# Altium footprint library Connector_Wire.PcbLib: 326 footprints (part 7 of 21)
Each footprint in its own frame and in the unit in brackets; x right, y up, seen from the top. Pads: shape width x height; smd on the part's side, far side on the other; paste and mask are expansions set on the pad; w line width, h text height; cw(c..) or ccw(c..) is an arc to the next point about the centre after c.
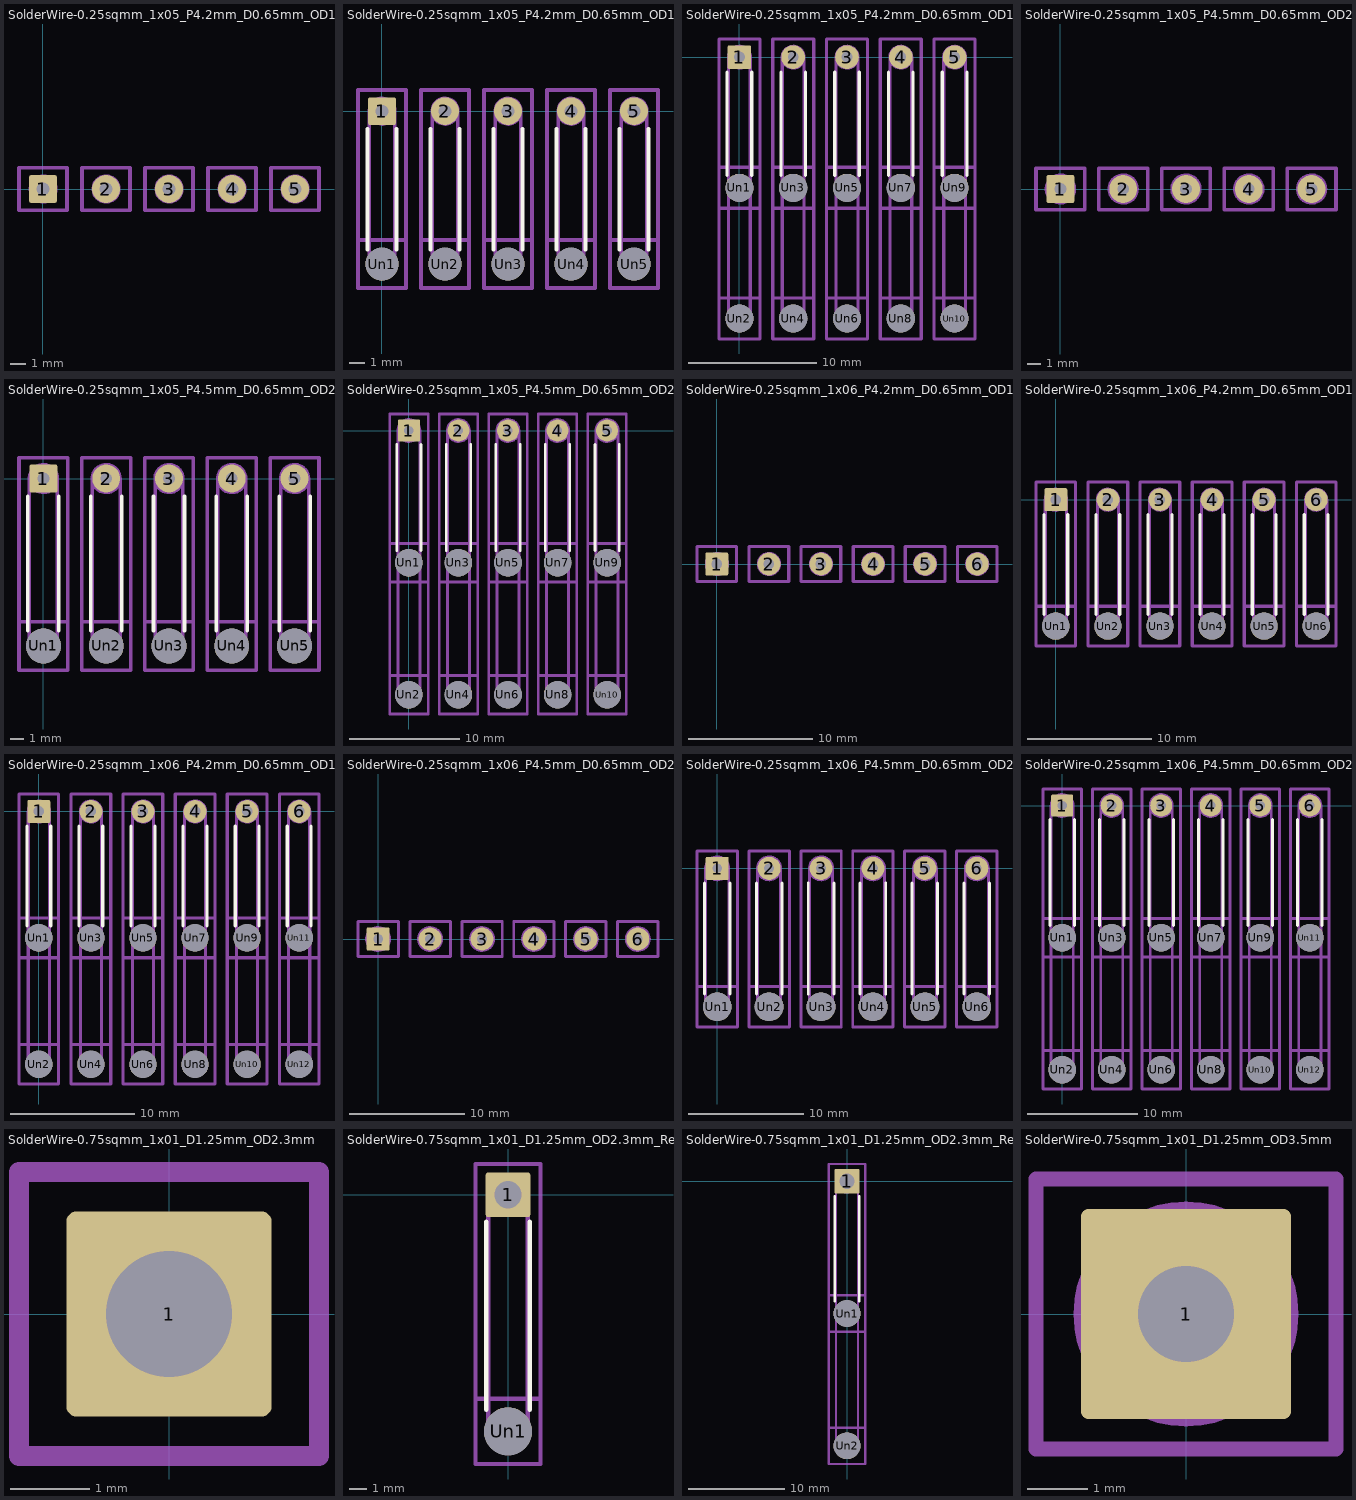
[diagram p6: the footprints below, top view; thin cyan lines are the x and y axes]

## SolderWire-0.25sqmm_1x05_P4.2mm_D0.65mm_OD1.7mm [mm]
pads (5):
  rrect14% 1.85x1.85 hole 0.85: 1(0,0)
  round 1.85 hole 0.85: 2(4.2,0) 3(8.4,0) 4(12.6,0) 5(16.8,0)
Top Assembly:
  circle w0.254: c16.8,0 r0.85
  circle w0.254: c12.6,0 r0.85
  circle w0.254: c8.4,0 r0.85
  circle w0.254: c4.2,0 r0.85
  circle w0.254: c0,0 r0.85
  text "'.Designator'" at 8.75,-1.697 h0.42
Top Courtyard:
  lines w0.254: -1.6,-1.42 1.6,-1.42 1.6,1.42 -1.6,1.42 -1.6,-1.42 ; 2.6,-1.42 5.8,-1.42 5.8,1.42 2.6,1.42 2.6,-1.42 ; 6.8,-1.42 10,-1.42 10,1.42 6.8,1.42 6.8,-1.42 ; 11,-1.42 14.2,-1.42 14.2,1.42 11,1.42 11,-1.42 ; 15.2,-1.42 18.4,-1.42 18.4,1.42 15.2,1.42 15.2,-1.42
Top Designator:
  text ".Designator" at 0.782,-0.568 h1.52

## SolderWire-0.25sqmm_1x05_P4.2mm_D0.65mm_OD1.7mm_Relief [mm]
pads (10):
  rrect14% 1.85x1.85 hole 0.85: 1(0,0)
  round 1.85 hole 0.85: 2(4.2,0) 3(8.4,0) 4(12.6,0) 5(16.8,0)
  round 2.2 hole 2.2: Un1(0,-10.2) Un2(4.2,-10.2) Un3(8.4,-10.2) Un4(12.6,-10.2) Un5(16.8,-10.2)
F.SilkS:
  lines w0.254: -0.96,-9.24 -0.96,-1.185 ; 0.96,-9.24 0.96,-1.185 ; 3.24,-9.24 3.24,-1.185 ; 5.16,-9.24 5.16,-1.185 ; 7.44,-9.24 7.44,-1.185 ; 9.36,-9.24 9.36,-1.185 ; 11.64,-9.24 11.64,-1.185 ; 13.56,-9.24 13.56,-1.185 ; 15.84,-9.24 15.84,-1.185 ; 17.76,-9.24 17.76,-1.185
Top Assembly:
  circle w0.254: c16.8,-10.2 r0.85
  circle w0.254: c16.8,0 r0.85
  circle w0.254: c12.6,-10.2 r0.85
  circle w0.254: c12.6,0 r0.85
  circle w0.254: c8.4,-10.2 r0.85
  circle w0.254: c8.4,0 r0.85
  circle w0.254: c4.2,-10.2 r0.85
  circle w0.254: c4.2,0 r0.85
  circle w0.254: c0,-10.2 r0.85
  circle w0.254: c0,0 r0.85
  lines w0.254: -0.85,-10.2 -0.85,0 ; 0.85,-10.2 0.85,0 ; 3.35,-10.2 3.35,0 ; 5.05,-10.2 5.05,0 ; 7.55,-10.2 7.55,0 ; 9.25,-10.2 9.25,0 ; 11.75,-10.2 11.75,0 ; 13.45,-10.2 13.45,0 ; 15.95,-10.2 15.95,0 ; 17.65,-10.2 17.65,0
  text "'.Designator'" at 9.24,-9.147 h1
Top Courtyard:
  lines w0.254: -1.6,-11.8 1.6,-11.8 1.6,1.42 -1.6,1.42 -1.6,-11.8 ; 2.6,-11.8 5.8,-11.8 5.8,1.42 2.6,1.42 2.6,-11.8 ; 6.8,-11.8 10,-11.8 10,1.42 6.8,1.42 6.8,-11.8 ; 11,-11.8 14.2,-11.8 14.2,1.42 11,1.42 11,-11.8 ; 15.2,-11.8 18.4,-11.8 18.4,1.42 15.2,1.42 15.2,-11.8
Bottom Courtyard:
  lines w0.254: -1.6,-11.8 1.6,-11.8 1.6,-8.6 -1.6,-8.6 -1.6,-11.8 ; 2.6,-11.8 5.8,-11.8 5.8,-8.6 2.6,-8.6 2.6,-11.8 ; 6.8,-11.8 10,-11.8 10,-8.6 6.8,-8.6 6.8,-11.8 ; 11,-11.8 14.2,-11.8 14.2,-8.6 11,-8.6 11,-11.8 ; 15.2,-11.8 18.4,-11.8 18.4,-8.6 15.2,-8.6 15.2,-11.8
Top Designator:
  text ".Designator" at 0.782,-5.698 h1.52

## SolderWire-0.25sqmm_1x05_P4.2mm_D0.65mm_OD1.7mm_Relief2x [mm]
pads (15):
  rrect14% 1.85x1.85 hole 0.85: 1(0,0)
  round 1.85 hole 0.85: 2(4.2,0) 3(8.4,0) 4(12.6,0) 5(16.8,0)
  round 2.2 hole 2.2: Un1(0,-10.2) Un2(0,-20.4) Un3(4.2,-10.2) Un4(4.2,-20.4) Un5(8.4,-10.2) Un6(8.4,-20.4) Un7(12.6,-10.2) Un8(12.6,-20.4) Un9(16.8,-10.2) Un10(16.8,-20.4)
F.SilkS:
  lines w0.254: -0.96,-9.24 -0.96,-1.185 ; 0.96,-9.24 0.96,-1.185 ; 3.24,-9.24 3.24,-1.185 ; 5.16,-9.24 5.16,-1.185 ; 7.44,-9.24 7.44,-1.185 ; 9.36,-9.24 9.36,-1.185 ; 11.64,-9.24 11.64,-1.185 ; 13.56,-9.24 13.56,-1.185 ; 15.84,-9.24 15.84,-1.185 ; 17.76,-9.24 17.76,-1.185
B.SilkS:
  lines w0.254: -0.96,-19.44 -0.96,-11.16 ; 0.96,-19.44 0.96,-11.16 ; 3.24,-19.44 3.24,-11.16 ; 5.16,-19.44 5.16,-11.16 ; 7.44,-19.44 7.44,-11.16 ; 9.36,-19.44 9.36,-11.16 ; 11.64,-19.44 11.64,-11.16 ; 13.56,-19.44 13.56,-11.16 ; 15.84,-19.44 15.84,-11.16 ; 17.76,-19.44 17.76,-11.16
Top Assembly:
  circle w0.254: c16.8,-20.4 r0.85
  circle w0.254: c16.8,-10.2 r0.85
  circle w0.254: c16.8,0 r0.85
  circle w0.254: c12.6,-20.4 r0.85
  circle w0.254: c12.6,-10.2 r0.85
  circle w0.254: c12.6,0 r0.85
  circle w0.254: c8.4,-20.4 r0.85
  circle w0.254: c8.4,-10.2 r0.85
  circle w0.254: c8.4,0 r0.85
  circle w0.254: c4.2,-20.4 r0.85
  circle w0.254: c4.2,-10.2 r0.85
  circle w0.254: c4.2,0 r0.85
  circle w0.254: c0,-20.4 r0.85
  circle w0.254: c0,-10.2 r0.85
  circle w0.254: c0,0 r0.85
  lines w0.254: -0.85,-10.2 -0.85,0 ; 0.85,-10.2 0.85,0 ; 3.35,-10.2 3.35,0 ; 5.05,-10.2 5.05,0 ; 7.55,-10.2 7.55,0 ; 9.25,-10.2 9.25,0 ; 11.75,-10.2 11.75,0 ; 13.45,-10.2 13.45,0 ; 15.95,-10.2 15.95,0 ; 17.65,-10.2 17.65,0
  text "'.Designator'" at 9.24,-9.147 h1
Bottom Assembly:
  circle w0.254: c16.8,-20.4 r0.85
  circle w0.254: c16.8,-10.2 r0.85
  circle w0.254: c12.6,-20.4 r0.85
  circle w0.254: c12.6,-10.2 r0.85
  circle w0.254: c8.4,-20.4 r0.85
  circle w0.254: c8.4,-10.2 r0.85
  circle w0.254: c4.2,-20.4 r0.85
  circle w0.254: c4.2,-10.2 r0.85
  circle w0.254: c0,-20.4 r0.85
  circle w0.254: c0,-10.2 r0.85
  lines w0.254: -0.85,-20.4 -0.85,-10.2 ; 0.85,-20.4 0.85,-10.2 ; 3.35,-20.4 3.35,-10.2 ; 5.05,-20.4 5.05,-10.2 ; 7.55,-20.4 7.55,-10.2 ; 9.25,-20.4 9.25,-10.2 ; 11.75,-20.4 11.75,-10.2 ; 13.45,-20.4 13.45,-10.2 ; 15.95,-20.4 15.95,-10.2 ; 17.65,-20.4 17.65,-10.2
Top Courtyard:
  lines w0.254: -1.6,-22 1.6,-22 1.6,-18.8 -1.6,-18.8 -1.6,-22 ; -1.6,-11.8 1.6,-11.8 1.6,1.42 -1.6,1.42 -1.6,-11.8 ; 2.6,-22 5.8,-22 5.8,-18.8 2.6,-18.8 2.6,-22 ; 2.6,-11.8 5.8,-11.8 5.8,1.42 2.6,1.42 2.6,-11.8 ; 6.8,-22 10,-22 10,-18.8 6.8,-18.8 6.8,-22 ; 6.8,-11.8 10,-11.8 10,1.42 6.8,1.42 6.8,-11.8 ; 11,-22 14.2,-22 14.2,-18.8 11,-18.8 11,-22 ; 11,-11.8 14.2,-11.8 14.2,1.42 11,1.42 11,-11.8 ; 15.2,-22 18.4,-22 18.4,-18.8 15.2,-18.8 15.2,-22 ; 15.2,-11.8 18.4,-11.8 18.4,1.42 15.2,1.42 15.2,-11.8
Bottom Courtyard:
  lines w0.254: -1.6,-22 1.6,-22 1.6,-8.6 -1.6,-8.6 -1.6,-22 ; 2.6,-22 5.8,-22 5.8,-8.6 2.6,-8.6 2.6,-22 ; 6.8,-22 10,-22 10,-8.6 6.8,-8.6 6.8,-22 ; 11,-22 14.2,-22 14.2,-8.6 11,-8.6 11,-22 ; 15.2,-22 18.4,-22 18.4,-8.6 15.2,-8.6 15.2,-22
Top Designator:
  text ".Designator" at 0.782,-10.798 h1.52

## SolderWire-0.25sqmm_1x05_P4.5mm_D0.65mm_OD2mm [mm]
pads (5):
  rrect12% 2x2 hole 0.85: 1(0,0)
  round 2 hole 0.85: 2(4.5,0) 3(9,0) 4(13.5,0) 5(18,0)
Top Assembly:
  circle w0.254: c18,0 r1
  circle w0.254: c13.5,0 r1
  circle w0.254: c9,0 r1
  circle w0.254: c4.5,0 r1
  circle w0.254: c0,0 r1
  text "'.Designator'" at 6.972,-0.425 h0.5
Top Courtyard:
  lines w0.254: -1.75,-1.5 1.75,-1.5 1.75,1.5 -1.75,1.5 -1.75,-1.5 ; 2.75,-1.5 6.25,-1.5 6.25,1.5 2.75,1.5 2.75,-1.5 ; 7.25,-1.5 10.75,-1.5 10.75,1.5 7.25,1.5 7.25,-1.5 ; 11.75,-1.5 15.25,-1.5 15.25,1.5 11.75,1.5 11.75,-1.5 ; 16.25,-1.5 19.75,-1.5 19.75,1.5 16.25,1.5 16.25,-1.5
Top Designator:
  text ".Designator" at 1.382,-0.508 h1.52

## SolderWire-0.25sqmm_1x05_P4.5mm_D0.65mm_OD2mm_Relief [mm]
pads (10):
  rrect12% 2x2 hole 0.85: 1(0,0)
  round 2 hole 0.85: 2(4.5,0) 3(9,0) 4(13.5,0) 5(18,0)
  round 2.5 hole 2.5: Un1(0,-12) Un2(4.5,-12) Un3(9,-12) Un4(13.5,-12) Un5(18,-12)
F.SilkS:
  lines w0.254: -1.11,-10.89 -1.11,-1.26 ; 1.11,-10.89 1.11,-1.26 ; 3.39,-10.89 3.39,-1.26 ; 5.61,-10.89 5.61,-1.26 ; 7.89,-10.89 7.89,-1.26 ; 10.11,-10.89 10.11,-1.26 ; 12.39,-10.89 12.39,-1.26 ; 14.61,-10.89 14.61,-1.26 ; 16.89,-10.89 16.89,-1.26 ; 19.11,-10.89 19.11,-1.26
Top Assembly:
  circle w0.254: c18,-12 r1
  circle w0.254: c18,0 r1
  circle w0.254: c13.5,-12 r1
  circle w0.254: c13.5,0 r1
  circle w0.254: c9,-12 r1
  circle w0.254: c9,0 r1
  circle w0.254: c4.5,-12 r1
  circle w0.254: c4.5,0 r1
  circle w0.254: c0,-12 r1
  circle w0.254: c0,0 r1
  lines w0.254: -1,-12 -1,0 ; 1,-12 1,0 ; 3.5,-12 3.5,0 ; 5.5,-12 5.5,0 ; 8,-12 8,0 ; 10,-12 10,0 ; 12.5,-12 12.5,0 ; 14.5,-12 14.5,0 ; 17,-12 17,0 ; 19,-12 19,0
  text "'.Designator'" at 9.84,-10.047 h1
Top Courtyard:
  lines w0.254: -1.75,-13.75 1.75,-13.75 1.75,1.5 -1.75,1.5 -1.75,-13.75 ; 2.75,-13.75 6.25,-13.75 6.25,1.5 2.75,1.5 2.75,-13.75 ; 7.25,-13.75 10.75,-13.75 10.75,1.5 7.25,1.5 7.25,-13.75 ; 11.75,-13.75 15.25,-13.75 15.25,1.5 11.75,1.5 11.75,-13.75 ; 16.25,-13.75 19.75,-13.75 19.75,1.5 16.25,1.5 16.25,-13.75
Bottom Courtyard:
  lines w0.254: -1.75,-13.75 1.75,-13.75 1.75,-10.25 -1.75,-10.25 -1.75,-13.75 ; 2.75,-13.75 6.25,-13.75 6.25,-10.25 2.75,-10.25 2.75,-13.75 ; 7.25,-13.75 10.75,-13.75 10.75,-10.25 7.25,-10.25 7.25,-13.75 ; 11.75,-13.75 15.25,-13.75 15.25,-10.25 11.75,-10.25 11.75,-13.75 ; 16.25,-13.75 19.75,-13.75 19.75,-10.25 16.25,-10.25 16.25,-13.75
Top Designator:
  text ".Designator" at 1.382,-6.633 h1.52

## SolderWire-0.25sqmm_1x05_P4.5mm_D0.65mm_OD2mm_Relief2x [mm]
pads (15):
  rrect12% 2x2 hole 0.85: 1(0,0)
  round 2 hole 0.85: 2(4.5,0) 3(9,0) 4(13.5,0) 5(18,0)
  round 2.5 hole 2.5: Un1(0,-12) Un2(0,-24) Un3(4.5,-12) Un4(4.5,-24) Un5(9,-12) Un6(9,-24) Un7(13.5,-12) Un8(13.5,-24) Un9(18,-12) Un10(18,-24)
F.SilkS:
  lines w0.254: -1.11,-10.89 -1.11,-1.26 ; 1.11,-10.89 1.11,-1.26 ; 3.39,-10.89 3.39,-1.26 ; 5.61,-10.89 5.61,-1.26 ; 7.89,-10.89 7.89,-1.26 ; 10.11,-10.89 10.11,-1.26 ; 12.39,-10.89 12.39,-1.26 ; 14.61,-10.89 14.61,-1.26 ; 16.89,-10.89 16.89,-1.26 ; 19.11,-10.89 19.11,-1.26
B.SilkS:
  lines w0.254: -1.11,-22.89 -1.11,-13.11 ; 1.11,-22.89 1.11,-13.11 ; 3.39,-22.89 3.39,-13.11 ; 5.61,-22.89 5.61,-13.11 ; 7.89,-22.89 7.89,-13.11 ; 10.11,-22.89 10.11,-13.11 ; 12.39,-22.89 12.39,-13.11 ; 14.61,-22.89 14.61,-13.11 ; 16.89,-22.89 16.89,-13.11 ; 19.11,-22.89 19.11,-13.11
Top Assembly:
  circle w0.254: c18,-24 r1
  circle w0.254: c18,-12 r1
  circle w0.254: c18,0 r1
  circle w0.254: c13.5,-24 r1
  circle w0.254: c13.5,-12 r1
  circle w0.254: c13.5,0 r1
  circle w0.254: c9,-24 r1
  circle w0.254: c9,-12 r1
  circle w0.254: c9,0 r1
  circle w0.254: c4.5,-24 r1
  circle w0.254: c4.5,-12 r1
  circle w0.254: c4.5,0 r1
  circle w0.254: c0,-24 r1
  circle w0.254: c0,-12 r1
  circle w0.254: c0,0 r1
  lines w0.254: -1,-12 -1,0 ; 1,-12 1,0 ; 3.5,-12 3.5,0 ; 5.5,-12 5.5,0 ; 8,-12 8,0 ; 10,-12 10,0 ; 12.5,-12 12.5,0 ; 14.5,-12 14.5,0 ; 17,-12 17,0 ; 19,-12 19,0
  text "'.Designator'" at 9.84,-10.047 h1
Bottom Assembly:
  circle w0.254: c18,-24 r1
  circle w0.254: c18,-12 r1
  circle w0.254: c13.5,-24 r1
  circle w0.254: c13.5,-12 r1
  circle w0.254: c9,-24 r1
  circle w0.254: c9,-12 r1
  circle w0.254: c4.5,-24 r1
  circle w0.254: c4.5,-12 r1
  circle w0.254: c0,-24 r1
  circle w0.254: c0,-12 r1
  lines w0.254: -1,-24 -1,-12 ; 1,-24 1,-12 ; 3.5,-24 3.5,-12 ; 5.5,-24 5.5,-12 ; 8,-24 8,-12 ; 10,-24 10,-12 ; 12.5,-24 12.5,-12 ; 14.5,-24 14.5,-12 ; 17,-24 17,-12 ; 19,-24 19,-12
Top Courtyard:
  lines w0.254: -1.75,-25.75 1.75,-25.75 1.75,-22.25 -1.75,-22.25 -1.75,-25.75 ; -1.75,-13.75 1.75,-13.75 1.75,1.5 -1.75,1.5 -1.75,-13.75 ; 2.75,-25.75 6.25,-25.75 6.25,-22.25 2.75,-22.25 2.75,-25.75 ; 2.75,-13.75 6.25,-13.75 6.25,1.5 2.75,1.5 2.75,-13.75 ; 7.25,-25.75 10.75,-25.75 10.75,-22.25 7.25,-22.25 7.25,-25.75 ; 7.25,-13.75 10.75,-13.75 10.75,1.5 7.25,1.5 7.25,-13.75 ; 11.75,-25.75 15.25,-25.75 15.25,-22.25 11.75,-22.25 11.75,-25.75 ; 11.75,-13.75 15.25,-13.75 15.25,1.5 11.75,1.5 11.75,-13.75 ; 16.25,-25.75 19.75,-25.75 19.75,-22.25 16.25,-22.25 16.25,-25.75 ; 16.25,-13.75 19.75,-13.75 19.75,1.5 16.25,1.5 16.25,-13.75
Bottom Courtyard:
  lines w0.254: -1.75,-25.75 1.75,-25.75 1.75,-10.25 -1.75,-10.25 -1.75,-25.75 ; 2.75,-25.75 6.25,-25.75 6.25,-10.25 2.75,-10.25 2.75,-25.75 ; 7.25,-25.75 10.75,-25.75 10.75,-10.25 7.25,-10.25 7.25,-25.75 ; 11.75,-25.75 15.25,-25.75 15.25,-10.25 11.75,-10.25 11.75,-25.75 ; 16.25,-25.75 19.75,-25.75 19.75,-10.25 16.25,-10.25 16.25,-25.75
Top Designator:
  text ".Designator" at 1.382,-12.633 h1.52

## SolderWire-0.25sqmm_1x06_P4.2mm_D0.65mm_OD1.7mm [mm]
pads (6):
  rrect14% 1.85x1.85 hole 0.85: 1(0,0)
  round 1.85 hole 0.85: 2(4.2,0) 3(8.4,0) 4(12.6,0) 5(16.8,0) 6(21,0)
Top Assembly:
  circle w0.254: c21,0 r0.85
  circle w0.254: c16.8,0 r0.85
  circle w0.254: c12.6,0 r0.85
  circle w0.254: c8.4,0 r0.85
  circle w0.254: c4.2,0 r0.85
  circle w0.254: c0,0 r0.85
  text "'.Designator'" at 11.1,-2.877 h0.71
Top Courtyard:
  lines w0.254: -1.6,-1.42 1.6,-1.42 1.6,1.42 -1.6,1.42 -1.6,-1.42 ; 2.6,-1.42 5.8,-1.42 5.8,1.42 2.6,1.42 2.6,-1.42 ; 6.8,-1.42 10,-1.42 10,1.42 6.8,1.42 6.8,-1.42 ; 11,-1.42 14.2,-1.42 14.2,1.42 11,1.42 11,-1.42 ; 15.2,-1.42 18.4,-1.42 18.4,1.42 15.2,1.42 15.2,-1.42 ; 19.4,-1.42 22.6,-1.42 22.6,1.42 19.4,1.42 19.4,-1.42
Top Designator:
  text ".Designator" at 2.882,-0.618 h1.52

## SolderWire-0.25sqmm_1x06_P4.2mm_D0.65mm_OD1.7mm_Relief [mm]
pads (12):
  rrect14% 1.85x1.85 hole 0.85: 1(0,0)
  round 1.85 hole 0.85: 2(4.2,0) 3(8.4,0) 4(12.6,0) 5(16.8,0) 6(21,0)
  round 2.2 hole 2.2: Un1(0,-10.2) Un2(4.2,-10.2) Un3(8.4,-10.2) Un4(12.6,-10.2) Un5(16.8,-10.2) Un6(21,-10.2)
F.SilkS:
  lines w0.254: -0.96,-9.24 -0.96,-1.185 ; 0.96,-9.24 0.96,-1.185 ; 3.24,-9.24 3.24,-1.185 ; 5.16,-9.24 5.16,-1.185 ; 7.44,-9.24 7.44,-1.185 ; 9.36,-9.24 9.36,-1.185 ; 11.64,-9.24 11.64,-1.185 ; 13.56,-9.24 13.56,-1.185 ; 15.84,-9.24 15.84,-1.185 ; 17.76,-9.24 17.76,-1.185 ; 20.04,-9.24 20.04,-1.185 ; 21.96,-9.24 21.96,-1.185
Top Assembly:
  circle w0.254: c21,-10.2 r0.85
  circle w0.254: c21,0 r0.85
  circle w0.254: c16.8,-10.2 r0.85
  circle w0.254: c16.8,0 r0.85
  circle w0.254: c12.6,-10.2 r0.85
  circle w0.254: c12.6,0 r0.85
  circle w0.254: c8.4,-10.2 r0.85
  circle w0.254: c8.4,0 r0.85
  circle w0.254: c4.2,-10.2 r0.85
  circle w0.254: c4.2,0 r0.85
  circle w0.254: c0,-10.2 r0.85
  circle w0.254: c0,0 r0.85
  lines w0.254: -0.85,-10.2 -0.85,0 ; 0.85,-10.2 0.85,0 ; 3.35,-10.2 3.35,0 ; 5.05,-10.2 5.05,0 ; 7.55,-10.2 7.55,0 ; 9.25,-10.2 9.25,0 ; 11.75,-10.2 11.75,0 ; 13.45,-10.2 13.45,0 ; 15.95,-10.2 15.95,0 ; 17.65,-10.2 17.65,0 ; 20.15,-10.2 20.15,0 ; 21.85,-10.2 21.85,0
  text "'.Designator'" at 11.34,-9.147 h1
Top Courtyard:
  lines w0.254: -1.6,-11.8 1.6,-11.8 1.6,1.42 -1.6,1.42 -1.6,-11.8 ; 2.6,-11.8 5.8,-11.8 5.8,1.42 2.6,1.42 2.6,-11.8 ; 6.8,-11.8 10,-11.8 10,1.42 6.8,1.42 6.8,-11.8 ; 11,-11.8 14.2,-11.8 14.2,1.42 11,1.42 11,-11.8 ; 15.2,-11.8 18.4,-11.8 18.4,1.42 15.2,1.42 15.2,-11.8 ; 19.4,-11.8 22.6,-11.8 22.6,1.42 19.4,1.42 19.4,-11.8
Bottom Courtyard:
  lines w0.254: -1.6,-11.8 1.6,-11.8 1.6,-8.6 -1.6,-8.6 -1.6,-11.8 ; 2.6,-11.8 5.8,-11.8 5.8,-8.6 2.6,-8.6 2.6,-11.8 ; 6.8,-11.8 10,-11.8 10,-8.6 6.8,-8.6 6.8,-11.8 ; 11,-11.8 14.2,-11.8 14.2,-8.6 11,-8.6 11,-11.8 ; 15.2,-11.8 18.4,-11.8 18.4,-8.6 15.2,-8.6 15.2,-11.8 ; 19.4,-11.8 22.6,-11.8 22.6,-8.6 19.4,-8.6 19.4,-11.8
Top Designator:
  text ".Designator" at 2.882,-5.698 h1.52

## SolderWire-0.25sqmm_1x06_P4.2mm_D0.65mm_OD1.7mm_Relief2x [mm]
pads (18):
  rrect14% 1.85x1.85 hole 0.85: 1(0,0)
  round 1.85 hole 0.85: 2(4.2,0) 3(8.4,0) 4(12.6,0) 5(16.8,0) 6(21,0)
  round 2.2 hole 2.2: Un1(0,-10.2) Un2(0,-20.4) Un3(4.2,-10.2) Un4(4.2,-20.4) Un5(8.4,-10.2) Un6(8.4,-20.4) Un7(12.6,-10.2) Un8(12.6,-20.4) Un9(16.8,-10.2) Un10(16.8,-20.4) Un11(21,-10.2) Un12(21,-20.4)
F.SilkS:
  lines w0.254: -0.96,-9.24 -0.96,-1.185 ; 0.96,-9.24 0.96,-1.185 ; 3.24,-9.24 3.24,-1.185 ; 5.16,-9.24 5.16,-1.185 ; 7.44,-9.24 7.44,-1.185 ; 9.36,-9.24 9.36,-1.185 ; 11.64,-9.24 11.64,-1.185 ; 13.56,-9.24 13.56,-1.185 ; 15.84,-9.24 15.84,-1.185 ; 17.76,-9.24 17.76,-1.185 ; 20.04,-9.24 20.04,-1.185 ; 21.96,-9.24 21.96,-1.185
B.SilkS:
  lines w0.254: -0.96,-19.44 -0.96,-11.16 ; 0.96,-19.44 0.96,-11.16 ; 3.24,-19.44 3.24,-11.16 ; 5.16,-19.44 5.16,-11.16 ; 7.44,-19.44 7.44,-11.16 ; 9.36,-19.44 9.36,-11.16 ; 11.64,-19.44 11.64,-11.16 ; 13.56,-19.44 13.56,-11.16 ; 15.84,-19.44 15.84,-11.16 ; 17.76,-19.44 17.76,-11.16 ; 20.04,-19.44 20.04,-11.16 ; 21.96,-19.44 21.96,-11.16
Top Assembly:
  circle w0.254: c21,-20.4 r0.85
  circle w0.254: c21,-10.2 r0.85
  circle w0.254: c21,0 r0.85
  circle w0.254: c16.8,-20.4 r0.85
  circle w0.254: c16.8,-10.2 r0.85
  circle w0.254: c16.8,0 r0.85
  circle w0.254: c12.6,-20.4 r0.85
  circle w0.254: c12.6,-10.2 r0.85
  circle w0.254: c12.6,0 r0.85
  circle w0.254: c8.4,-20.4 r0.85
  circle w0.254: c8.4,-10.2 r0.85
  circle w0.254: c8.4,0 r0.85
  circle w0.254: c4.2,-20.4 r0.85
  circle w0.254: c4.2,-10.2 r0.85
  circle w0.254: c4.2,0 r0.85
  circle w0.254: c0,-20.4 r0.85
  circle w0.254: c0,-10.2 r0.85
  circle w0.254: c0,0 r0.85
  lines w0.254: -0.85,-10.2 -0.85,0 ; 0.85,-10.2 0.85,0 ; 3.35,-10.2 3.35,0 ; 5.05,-10.2 5.05,0 ; 7.55,-10.2 7.55,0 ; 9.25,-10.2 9.25,0 ; 11.75,-10.2 11.75,0 ; 13.45,-10.2 13.45,0 ; 15.95,-10.2 15.95,0 ; 17.65,-10.2 17.65,0 ; 20.15,-10.2 20.15,0 ; 21.85,-10.2 21.85,0
  text "'.Designator'" at 11.34,-9.147 h1
Bottom Assembly:
  circle w0.254: c21,-20.4 r0.85
  circle w0.254: c21,-10.2 r0.85
  circle w0.254: c16.8,-20.4 r0.85
  circle w0.254: c16.8,-10.2 r0.85
  circle w0.254: c12.6,-20.4 r0.85
  circle w0.254: c12.6,-10.2 r0.85
  circle w0.254: c8.4,-20.4 r0.85
  circle w0.254: c8.4,-10.2 r0.85
  circle w0.254: c4.2,-20.4 r0.85
  circle w0.254: c4.2,-10.2 r0.85
  circle w0.254: c0,-20.4 r0.85
  circle w0.254: c0,-10.2 r0.85
  lines w0.254: -0.85,-20.4 -0.85,-10.2 ; 0.85,-20.4 0.85,-10.2 ; 3.35,-20.4 3.35,-10.2 ; 5.05,-20.4 5.05,-10.2 ; 7.55,-20.4 7.55,-10.2 ; 9.25,-20.4 9.25,-10.2 ; 11.75,-20.4 11.75,-10.2 ; 13.45,-20.4 13.45,-10.2 ; 15.95,-20.4 15.95,-10.2 ; 17.65,-20.4 17.65,-10.2 ; 20.15,-20.4 20.15,-10.2 ; 21.85,-20.4 21.85,-10.2
Top Courtyard:
  lines w0.254: -1.6,-22 1.6,-22 1.6,-18.8 -1.6,-18.8 -1.6,-22 ; -1.6,-11.8 1.6,-11.8 1.6,1.42 -1.6,1.42 -1.6,-11.8 ; 2.6,-22 5.8,-22 5.8,-18.8 2.6,-18.8 2.6,-22 ; 2.6,-11.8 5.8,-11.8 5.8,1.42 2.6,1.42 2.6,-11.8 ; 6.8,-22 10,-22 10,-18.8 6.8,-18.8 6.8,-22 ; 6.8,-11.8 10,-11.8 10,1.42 6.8,1.42 6.8,-11.8 ; 11,-22 14.2,-22 14.2,-18.8 11,-18.8 11,-22 ; 11,-11.8 14.2,-11.8 14.2,1.42 11,1.42 11,-11.8 ; 15.2,-22 18.4,-22 18.4,-18.8 15.2,-18.8 15.2,-22 ; 15.2,-11.8 18.4,-11.8 18.4,1.42 15.2,1.42 15.2,-11.8 ; 19.4,-22 22.6,-22 22.6,-18.8 19.4,-18.8 19.4,-22 ; 19.4,-11.8 22.6,-11.8 22.6,1.42 19.4,1.42 19.4,-11.8
Bottom Courtyard:
  lines w0.254: -1.6,-22 1.6,-22 1.6,-8.6 -1.6,-8.6 -1.6,-22 ; 2.6,-22 5.8,-22 5.8,-8.6 2.6,-8.6 2.6,-22 ; 6.8,-22 10,-22 10,-8.6 6.8,-8.6 6.8,-22 ; 11,-22 14.2,-22 14.2,-8.6 11,-8.6 11,-22 ; 15.2,-22 18.4,-22 18.4,-8.6 15.2,-8.6 15.2,-22 ; 19.4,-22 22.6,-22 22.6,-8.6 19.4,-8.6 19.4,-22
Top Designator:
  text ".Designator" at 2.882,-10.798 h1.52

## SolderWire-0.25sqmm_1x06_P4.5mm_D0.65mm_OD2mm [mm]
pads (6):
  rrect12% 2x2 hole 0.85: 1(0,0)
  round 2 hole 0.85: 2(4.5,0) 3(9,0) 4(13.5,0) 5(18,0) 6(22.5,0)
Top Assembly:
  circle w0.254: c22.5,0 r1
  circle w0.254: c18,0 r1
  circle w0.254: c13.5,0 r1
  circle w0.254: c9,0 r1
  circle w0.254: c4.5,0 r1
  circle w0.254: c0,0 r1
  text "'.Designator'" at 11.878,-3.033 h0.75
Top Courtyard:
  lines w0.254: -1.75,-1.5 1.75,-1.5 1.75,1.5 -1.75,1.5 -1.75,-1.5 ; 2.75,-1.5 6.25,-1.5 6.25,1.5 2.75,1.5 2.75,-1.5 ; 7.25,-1.5 10.75,-1.5 10.75,1.5 7.25,1.5 7.25,-1.5 ; 11.75,-1.5 15.25,-1.5 15.25,1.5 11.75,1.5 11.75,-1.5 ; 16.25,-1.5 19.75,-1.5 19.75,1.5 16.25,1.5 16.25,-1.5 ; 20.75,-1.5 24.25,-1.5 24.25,1.5 20.75,1.5 20.75,-1.5
Top Designator:
  text ".Designator" at 3.632,-0.618 h1.52

## SolderWire-0.25sqmm_1x06_P4.5mm_D0.65mm_OD2mm_Relief [mm]
pads (12):
  rrect12% 2x2 hole 0.85: 1(0,0)
  round 2 hole 0.85: 2(4.5,0) 3(9,0) 4(13.5,0) 5(18,0) 6(22.5,0)
  round 2.5 hole 2.5: Un1(0,-12) Un2(4.5,-12) Un3(9,-12) Un4(13.5,-12) Un5(18,-12) Un6(22.5,-12)
F.SilkS:
  lines w0.254: -1.11,-10.89 -1.11,-1.26 ; 1.11,-10.89 1.11,-1.26 ; 3.39,-10.89 3.39,-1.26 ; 5.61,-10.89 5.61,-1.26 ; 7.89,-10.89 7.89,-1.26 ; 10.11,-10.89 10.11,-1.26 ; 12.39,-10.89 12.39,-1.26 ; 14.61,-10.89 14.61,-1.26 ; 16.89,-10.89 16.89,-1.26 ; 19.11,-10.89 19.11,-1.26 ; 21.39,-10.89 21.39,-1.26 ; 23.61,-10.89 23.61,-1.26
Top Assembly:
  circle w0.254: c22.5,-12 r1
  circle w0.254: c22.5,0 r1
  circle w0.254: c18,-12 r1
  circle w0.254: c18,0 r1
  circle w0.254: c13.5,-12 r1
  circle w0.254: c13.5,0 r1
  circle w0.254: c9,-12 r1
  circle w0.254: c9,0 r1
  circle w0.254: c4.5,-12 r1
  circle w0.254: c4.5,0 r1
  circle w0.254: c0,-12 r1
  circle w0.254: c0,0 r1
  lines w0.254: -1,-12 -1,0 ; 1,-12 1,0 ; 3.5,-12 3.5,0 ; 5.5,-12 5.5,0 ; 8,-12 8,0 ; 10,-12 10,0 ; 12.5,-12 12.5,0 ; 14.5,-12 14.5,0 ; 17,-12 17,0 ; 19,-12 19,0 ; 21.5,-12 21.5,0 ; 23.5,-12 23.5,0
  text "'.Designator'" at 12.09,-10.047 h1
Top Courtyard:
  lines w0.254: -1.75,-13.75 1.75,-13.75 1.75,1.5 -1.75,1.5 -1.75,-13.75 ; 2.75,-13.75 6.25,-13.75 6.25,1.5 2.75,1.5 2.75,-13.75 ; 7.25,-13.75 10.75,-13.75 10.75,1.5 7.25,1.5 7.25,-13.75 ; 11.75,-13.75 15.25,-13.75 15.25,1.5 11.75,1.5 11.75,-13.75 ; 16.25,-13.75 19.75,-13.75 19.75,1.5 16.25,1.5 16.25,-13.75 ; 20.75,-13.75 24.25,-13.75 24.25,1.5 20.75,1.5 20.75,-13.75
Bottom Courtyard:
  lines w0.254: -1.75,-13.75 1.75,-13.75 1.75,-10.25 -1.75,-10.25 -1.75,-13.75 ; 2.75,-13.75 6.25,-13.75 6.25,-10.25 2.75,-10.25 2.75,-13.75 ; 7.25,-13.75 10.75,-13.75 10.75,-10.25 7.25,-10.25 7.25,-13.75 ; 11.75,-13.75 15.25,-13.75 15.25,-10.25 11.75,-10.25 11.75,-13.75 ; 16.25,-13.75 19.75,-13.75 19.75,-10.25 16.25,-10.25 16.25,-13.75 ; 20.75,-13.75 24.25,-13.75 24.25,-10.25 20.75,-10.25 20.75,-13.75
Top Designator:
  text ".Designator" at 3.632,-6.633 h1.52

## SolderWire-0.25sqmm_1x06_P4.5mm_D0.65mm_OD2mm_Relief2x [mm]
pads (18):
  rrect12% 2x2 hole 0.85: 1(0,0)
  round 2 hole 0.85: 2(4.5,0) 3(9,0) 4(13.5,0) 5(18,0) 6(22.5,0)
  round 2.5 hole 2.5: Un1(0,-12) Un2(0,-24) Un3(4.5,-12) Un4(4.5,-24) Un5(9,-12) Un6(9,-24) Un7(13.5,-12) Un8(13.5,-24) Un9(18,-12) Un10(18,-24) Un11(22.5,-12) Un12(22.5,-24)
F.SilkS:
  lines w0.254: -1.11,-10.89 -1.11,-1.26 ; 1.11,-10.89 1.11,-1.26 ; 3.39,-10.89 3.39,-1.26 ; 5.61,-10.89 5.61,-1.26 ; 7.89,-10.89 7.89,-1.26 ; 10.11,-10.89 10.11,-1.26 ; 12.39,-10.89 12.39,-1.26 ; 14.61,-10.89 14.61,-1.26 ; 16.89,-10.89 16.89,-1.26 ; 19.11,-10.89 19.11,-1.26 ; 21.39,-10.89 21.39,-1.26 ; 23.61,-10.89 23.61,-1.26
B.SilkS:
  lines w0.254: -1.11,-22.89 -1.11,-13.11 ; 1.11,-22.89 1.11,-13.11 ; 3.39,-22.89 3.39,-13.11 ; 5.61,-22.89 5.61,-13.11 ; 7.89,-22.89 7.89,-13.11 ; 10.11,-22.89 10.11,-13.11 ; 12.39,-22.89 12.39,-13.11 ; 14.61,-22.89 14.61,-13.11 ; 16.89,-22.89 16.89,-13.11 ; 19.11,-22.89 19.11,-13.11 ; 21.39,-22.89 21.39,-13.11 ; 23.61,-22.89 23.61,-13.11
Top Assembly:
  circle w0.254: c22.5,-24 r1
  circle w0.254: c22.5,-12 r1
  circle w0.254: c22.5,0 r1
  circle w0.254: c18,-24 r1
  circle w0.254: c18,-12 r1
  circle w0.254: c18,0 r1
  circle w0.254: c13.5,-24 r1
  circle w0.254: c13.5,-12 r1
  circle w0.254: c13.5,0 r1
  circle w0.254: c9,-24 r1
  circle w0.254: c9,-12 r1
  circle w0.254: c9,0 r1
  circle w0.254: c4.5,-24 r1
  circle w0.254: c4.5,-12 r1
  circle w0.254: c4.5,0 r1
  circle w0.254: c0,-24 r1
  circle w0.254: c0,-12 r1
  circle w0.254: c0,0 r1
  lines w0.254: -1,-12 -1,0 ; 1,-12 1,0 ; 3.5,-12 3.5,0 ; 5.5,-12 5.5,0 ; 8,-12 8,0 ; 10,-12 10,0 ; 12.5,-12 12.5,0 ; 14.5,-12 14.5,0 ; 17,-12 17,0 ; 19,-12 19,0 ; 21.5,-12 21.5,0 ; 23.5,-12 23.5,0
  text "'.Designator'" at 12.09,-10.047 h1
Bottom Assembly:
  circle w0.254: c22.5,-24 r1
  circle w0.254: c22.5,-12 r1
  circle w0.254: c18,-24 r1
  circle w0.254: c18,-12 r1
  circle w0.254: c13.5,-24 r1
  circle w0.254: c13.5,-12 r1
  circle w0.254: c9,-24 r1
  circle w0.254: c9,-12 r1
  circle w0.254: c4.5,-24 r1
  circle w0.254: c4.5,-12 r1
  circle w0.254: c0,-24 r1
  circle w0.254: c0,-12 r1
  lines w0.254: -1,-24 -1,-12 ; 1,-24 1,-12 ; 3.5,-24 3.5,-12 ; 5.5,-24 5.5,-12 ; 8,-24 8,-12 ; 10,-24 10,-12 ; 12.5,-24 12.5,-12 ; 14.5,-24 14.5,-12 ; 17,-24 17,-12 ; 19,-24 19,-12 ; 21.5,-24 21.5,-12 ; 23.5,-24 23.5,-12
Top Courtyard:
  lines w0.254: -1.75,-25.75 1.75,-25.75 1.75,-22.25 -1.75,-22.25 -1.75,-25.75 ; -1.75,-13.75 1.75,-13.75 1.75,1.5 -1.75,1.5 -1.75,-13.75 ; 2.75,-25.75 6.25,-25.75 6.25,-22.25 2.75,-22.25 2.75,-25.75 ; 2.75,-13.75 6.25,-13.75 6.25,1.5 2.75,1.5 2.75,-13.75 ; 7.25,-25.75 10.75,-25.75 10.75,-22.25 7.25,-22.25 7.25,-25.75 ; 7.25,-13.75 10.75,-13.75 10.75,1.5 7.25,1.5 7.25,-13.75 ; 11.75,-25.75 15.25,-25.75 15.25,-22.25 11.75,-22.25 11.75,-25.75 ; 11.75,-13.75 15.25,-13.75 15.25,1.5 11.75,1.5 11.75,-13.75 ; 16.25,-25.75 19.75,-25.75 19.75,-22.25 16.25,-22.25 16.25,-25.75 ; 16.25,-13.75 19.75,-13.75 19.75,1.5 16.25,1.5 16.25,-13.75 ; 20.75,-25.75 24.25,-25.75 24.25,-22.25 20.75,-22.25 20.75,-25.75 ; 20.75,-13.75 24.25,-13.75 24.25,1.5 20.75,1.5 20.75,-13.75
Bottom Courtyard:
  lines w0.254: -1.75,-25.75 1.75,-25.75 1.75,-10.25 -1.75,-10.25 -1.75,-25.75 ; 2.75,-25.75 6.25,-25.75 6.25,-10.25 2.75,-10.25 2.75,-25.75 ; 7.25,-25.75 10.75,-25.75 10.75,-10.25 7.25,-10.25 7.25,-25.75 ; 11.75,-25.75 15.25,-25.75 15.25,-10.25 11.75,-10.25 11.75,-25.75 ; 16.25,-25.75 19.75,-25.75 19.75,-10.25 16.25,-10.25 16.25,-25.75 ; 20.75,-25.75 24.25,-25.75 24.25,-10.25 20.75,-10.25 20.75,-25.75
Top Designator:
  text ".Designator" at 3.632,-12.633 h1.52

## SolderWire-0.75sqmm_1x01_D1.25mm_OD2.3mm [mm]
pads (1):
  rrect10% 2.6x2.6 hole 1.6: 1(0,0)
Top Assembly:
  circle w0.254: c0,0 r1.15
  text "'.Designator'" at -2.311,-0.483 h0.57
Top Courtyard:
  lines w0.254: -1.9,-1.8 1.9,-1.8 1.9,1.8 -1.9,1.8 -1.9,-1.8
Top Designator:
  text ".Designator" at -7.708,-0.508 h1.52

## SolderWire-0.75sqmm_1x01_D1.25mm_OD2.3mm_Relief [mm]
pads (2):
  rrect10% 2.6x2.6 hole 1.6: 1(0,0)
  round 2.8 hole 2.8: Un1(0,-13.8)
F.SilkS:
  lines w0.254: -1.26,-12.54 -1.26,-1.56 ; 1.26,-12.54 1.26,-1.56
Top Assembly:
  circle w0.254: c0,-13.8 r1.15
  circle w0.254: c0,0 r1.15
  lines w0.254: -1.15,-13.8 -1.15,0 ; 1.15,-13.8 1.15,0
  text "'.Designator'" at 0.84,-10.947 h1
Top Courtyard:
  lines w0.254: -1.9,-15.7 1.9,-15.7 1.9,1.8 -1.9,1.8 -1.9,-15.7
Bottom Courtyard:
  lines w0.254: -1.9,-15.7 1.9,-15.7 1.9,-11.9 -1.9,-11.9 -1.9,-15.7
Top Designator:
  text ".Designator" at -7.618,-7.458 h1.52

## SolderWire-0.75sqmm_1x01_D1.25mm_OD2.3mm_Relief2x [mm]
pads (3):
  rrect10% 2.6x2.6 hole 1.6: 1(0,0)
  round 2.8 hole 2.8: Un1(0,-13.8) Un2(0,-27.6)
F.SilkS:
  lines w0.254: -1.26,-12.54 -1.26,-1.56 ; 1.26,-12.54 1.26,-1.56
B.SilkS:
  lines w0.254: -1.26,-26.34 -1.26,-15.06 ; 1.26,-26.34 1.26,-15.06
Top Assembly:
  circle w0.254: c0,-27.6 r1.15
  circle w0.254: c0,-13.8 r1.15
  circle w0.254: c0,0 r1.15
  lines w0.254: -1.15,-13.8 -1.15,0 ; 1.15,-13.8 1.15,0
  text "'.Designator'" at 0.84,-10.947 h1
Bottom Assembly:
  circle w0.254: c0,-27.6 r1.15
  circle w0.254: c0,-13.8 r1.15
  lines w0.254: -1.15,-27.6 -1.15,-13.8 ; 1.15,-27.6 1.15,-13.8
Top Courtyard:
  lines w0.254: -1.9,-29.5 1.9,-29.5 1.9,-25.7 -1.9,-25.7 -1.9,-29.5 ; -1.9,-15.7 1.9,-15.7 1.9,1.8 -1.9,1.8 -1.9,-15.7
Bottom Courtyard:
  lines w0.254: -1.9,-29.5 1.9,-29.5 1.9,-11.9 -1.9,-11.9 -1.9,-29.5
Top Designator:
  text ".Designator" at -7.618,-14.358 h1.52

## SolderWire-0.75sqmm_1x01_D1.25mm_OD3.5mm [mm]
pads (1):
  rrect7% 3.5x3.5 hole 1.6: 1(0,0)
Top Assembly:
  circle w0.254: c0,0 r1.75
  text "'.Designator'" at -3.559,-0.737 h0.88
Top Courtyard:
  lines w0.254: -2.5,-2.25 2.5,-2.25 2.5,2.25 -2.5,2.25 -2.5,-2.25
Top Designator:
  text ".Designator" at -7.748,-0.508 h1.52